# EAGLE library part MC4044P (library 326298_rev_a)
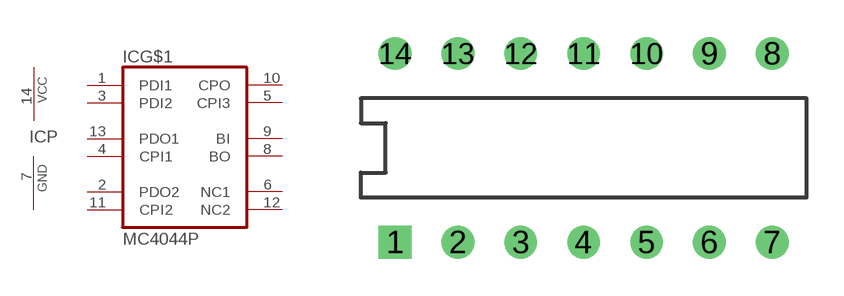
[diagram p18: symbol with the pads of DIL14; footprint DIL14]

Designator prefix IC; gates G$1=MC4044 P=PWRN

## MC4044P  [DIL14]
1  G$1:PDI1  in
2  G$1:PDO2  out
3  G$1:PDI2  in
4  G$1:CPI1  in
5  G$1:CPI3  in
6  G$1:NC1  nc
7  P:GND  pwr
8  G$1:BO  out
9  G$1:BI  in
10  G$1:CPO  out
11  G$1:CPI2  in
12  G$1:NC2  nc
13  G$1:PDO1  out
14  P:VCC  pwr

## Footprint DIL14 (pad centres in mm)
Dual In Line Package
drill 0.813 square: 1 0,0
drill 0.813: 2 2.54,0; 3 5.08,0; 4 7.62,0; 5 10.16,0; 6 12.7,0; 7 15.24,0; 8 15.24,7.62; 9 12.7,7.62; 10 10.16,7.62; 11 7.62,7.62; 12 5.08,7.62; 13 2.54,7.62; 14 0,7.62